# Altium footprint library Custom.PcbLib: 446 footprints (part 23 of 28)
Each footprint in its own frame and in the unit in brackets; x right, y up, seen from the top. Pads: shape width x height; smd on the part's side, far side on the other; paste and mask are expansions set on the pad; w line width, h text height; cw(c..) or ccw(c..) is an arc to the next point about the centre after c.
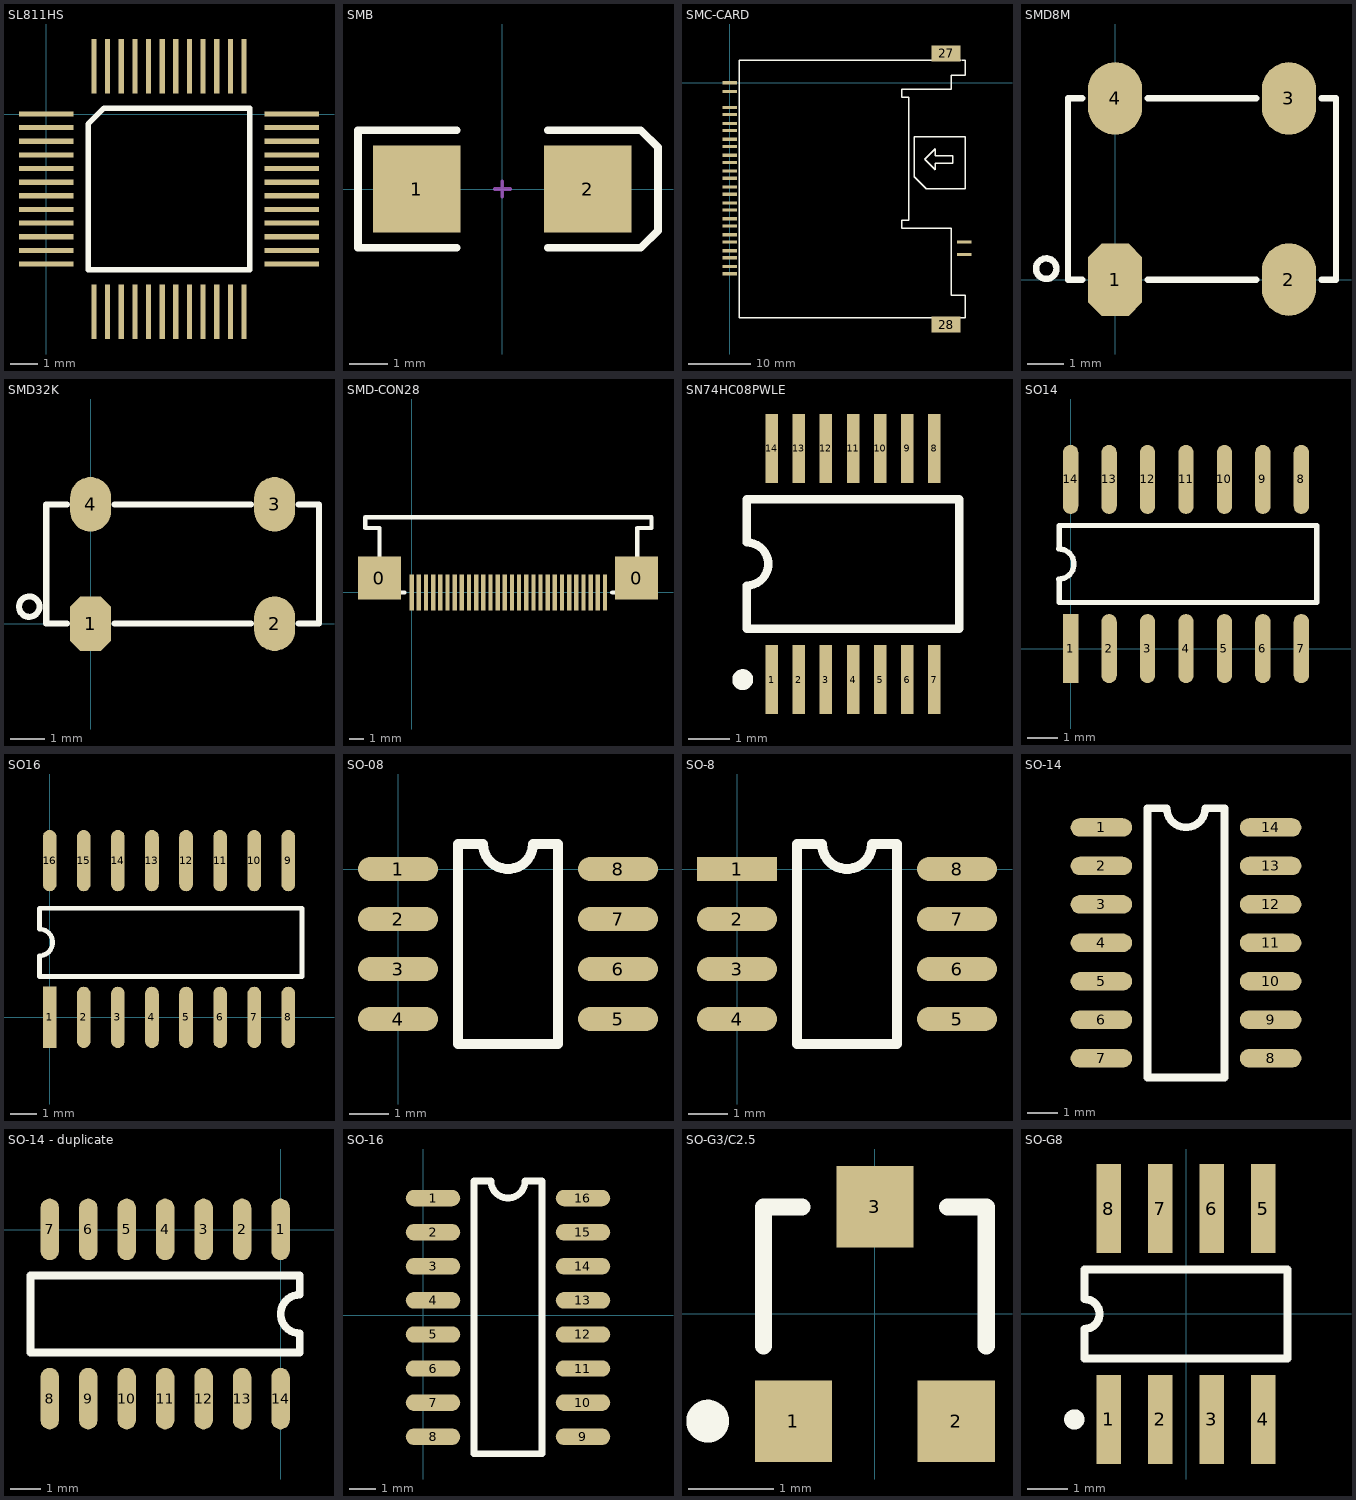
[diagram p22: the footprints below, top view; thin cyan lines are the x and y axes]

## SL811HS [mm]
pads (48):
  rect 2x0.19 smd: 1(0,0) 2(0,-0.5) 3(0,-1) 4(0,-1.5) 5(0,-2) 6(0,-2.5) 7(0,-3) 8(0,-3.5) 9(0,-4) 10(0,-4.5) 11(0,-5) 12(0,-5.5) 25(9,-5.5) 26(9,-5) 27(9,-4.5) 28(9,-4) 29(9,-3.5) 30(9,-3) 31(9,-2.5) 32(9,-2) 33(9,-1.5) 34(9,-1) 35(9,-0.5) 36(9,0)
  rect 0.19x2 smd: 13(1.75,-7.25) 14(2.25,-7.25) 15(2.75,-7.25) 16(3.25,-7.25) 17(3.75,-7.25) 18(4.25,-7.25) 19(4.75,-7.25) 20(5.25,-7.25) 21(5.75,-7.25) 22(6.25,-7.25) 23(6.75,-7.25) 24(7.25,-7.25) 37(7.25,1.75) 38(6.75,1.75) 39(6.25,1.75) 40(5.75,1.75) 41(5.25,1.75) 42(4.75,1.75) 43(4.25,1.75) 44(3.75,1.75) 45(3.25,1.75) 46(2.75,1.75) 47(2.25,1.75) 48(1.75,1.75)
Top Overlay:
  lines w0.2: 1.535,-5.715 1.535,-0.37 2.12,0.215 7.465,0.215 7.465,-5.715 1.535,-5.715

## SMB [mm] "DO-214-AA/SMB; 2 C-Bend Leads; Body 5.3 x 3.6 mm, inc. leads (LxW)"
height 2.54
pads (2):
  rect 2.3x2.3 smd: 1(-2.25,0) 2(2.25,0)
Top Overlay:
  lines w0.2: -1.2,-1.55 -3.8,-1.55 -3.8,1.55 -1.2,1.55 ; 1.2,-1.55 3.65,-1.55 4.1,-1.1 4.1,1.1 3.65,1.55 1.2,1.55
Mechanical 1:
  lines w0.1: -0.2,0 0.2,0 ; 0,-0.2 0,0.2

## SMC-CARD [mil]
pads (28):
  rect 90x20 smd: 1(0,-1200) 2(0,-1100) 3(0,-1000) 4(0,-900) 5(0,-800) 6(0,-700) 7(0,-600) 8(0,-500) 9(0,-400) 10(0,-300) 11(0,-200) 12(0,-155) 13(0,-255) 14(0,-355) 15(0,-455) 16(0,-555) 17(0,-655) 18(0,-755) 19(0,-855) 20(0,-955) 21(0,-1055) 22(0,-1155) 23(0,-55) 24(0,0) 25(1475,-1080) 26(1475,-1000)
  rect 180x100 smd: 27(1360,185) 28(1360,-1520)
Top Overlay:
  lines w8: 1452,140 60,140 60,-1475 1480,-1475 1480,-1335 1394,-1335 1394,-915 1080,-915 1080,-864 1125,-864 1125,-92 1080,-92 1080,-40 1394,-40 1394,48 1480,48 1480,140 1457,140 ; 1160,-589 1160,-339 1479,-339 1479,-665 1236,-665 1160,-589 ; 1227.5,-480.5 1293,-415 1293,-458 1403,-458 1403,-505 1293,-505 1293,-546 1227.5,-480.5

## SMD8M [mm]
pads (4):
  oct 1.5x2 smd: 1(0,0)
  oval 1.5x2 smd: 2(4.8,0) 3(4.8,5) 4(0,5)
Top Overlay:
  circle w0.178: c-1.9,0.3 r0.283
  lines w0.178: -0.9,0 -1.3,0 -1.3,5 -0.9,5 ; 0.9,0 3.9,0 ; 0.9,5 3.9,5 ; 5.7,0 6.1,0 6.1,5 5.7,5

## SMD32K [mm]
pads (4):
  oct 1.2x1.6 smd: 1(-0.01,0)
  oval 1.2x1.6 smd: 2(5.39,0) 3(5.39,3.5) 4(-0.01,3.5)
Top Overlay:
  circle w0.178: c-1.81,0.5 r0.3
  lines w0.178: -0.71,0 -1.31,0 -1.31,3.5 -0.71,3.5 ; 0.69,0 4.69,0 ; 0.69,3.5 4.69,3.5 ; 6.09,0 6.69,0 6.69,3.5 6.09,3.5

## SMD-CON28 [mm]
pads (30):
  rect 3x3 smd: 0(-2.25,1) 0(15.7,1)
  rect 0.3x2.54 smd: 1(0,0) 2(0.5,0) 3(1,0) 4(1.5,0) 5(2,0) 6(2.5,0) 7(3,0) 8(3.5,0) 9(4,0) 10(4.5,0) 11(5,0) 12(5.5,0) 13(6,0) 14(6.5,0) 15(7,0) 16(7.5,0) 17(8,0) 18(8.5,0) 19(9,0) 20(9.5,0) 21(10,0) 22(10.5,0) 23(11,0) 24(11.5,0) 25(12,0) 26(12.5,0) 27(13,0) 28(13.5,0)
Top Overlay:
  lines w0.305: -0.5,0 -2.25,0 -2.25,4.5 -3.25,4.5 -3.25,5.25 -2.25,5.25 5.75,5.25 15.75,5.25 16.75,5.25 16.75,4.5 15.75,4.5 15.75,0 14,0 ; 2.25,5.25 9.5,5.25

## SN74HC08PWLE [mm]
pads (14):
  rect 0.3x1.65 smd: 1(-745.799,-810.4) 2(-745.149,-810.4) 3(-744.499,-810.4) 4(-743.849,-810.4) 5(-743.199,-810.4) 6(-742.549,-810.4) 7(-741.899,-810.4) 8(-741.899,-804.85) 9(-742.549,-804.85) 10(-743.199,-804.85) 11(-743.849,-804.85) 12(-744.499,-804.85) 13(-745.149,-804.85) 14(-745.799,-804.85)
Top Overlay:
  circle w0.25: c-746.499,-810.4 r0.125
  lines w0.2: -746.399,-809.175 -741.299,-809.175 -741.299,-806.075 -746.399,-806.075 -746.399,-807.108 cw(c-746.399,-807.625) -746.399,-808.142 -746.399,-809.175

## SO14 [mil]
pads (14):
  rect 20x90 smd: 1(0,0)
  oval 20x90 smd: 2(50,0) 3(100,0) 4(150,0) 5(200,0) 6(250,0) 7(300,0) 8(300,220) 9(250,220) 10(200,220) 11(150,220) 12(100,220) 13(50,220) 14(0,220)
Top Overlay:
  lines w7: -15.35,90.31 ccw(c-15.35,110) -15.35,129.69 ; -15,90 -15,60 170,60 320,60 320,160 170,160 -15,160 -15,130

## SO16 [mil]
pads (16):
  rect 20x90 smd: 1(0,0)
  oval 20x90 smd: 2(50,0) 3(100,0) 4(150,0) 5(200,0) 6(250,0) 7(300,0) 8(350,0) 9(350,230) 10(300,230) 11(250,230) 12(200,230) 13(150,230) 14(100,230) 15(50,230) 16(0,230)
Top Overlay:
  lines w7: -15.35,90.31 ccw(c-15.35,110) -15.35,129.69 ; -15,90 -15,60 170,60 370,60 370,160 170,160 -15,160 -15,130

## SO-08 [mil]
pads (8):
  oval 80x24 smd: 1(0,0) 2(0,-50) 3(0,-100) 4(0,-150) 5(220,-150) 6(220,-100) 7(220,-50) 8(220,0)
Top Overlay:
  lines w10: 60,-175 160,-175 160,25 135,25 cw(c110,25) 85,25 60,25 60,-175

## SO-8 [mil]
pads (8):
  rect 80x24 smd: 1(0,0)
  oval 80x24 smd: 2(0,-50) 3(0,-100) 4(0,-150) 5(220,-150) 6(220,-100) 7(220,-50) 8(220,0)
Top Overlay:
  lines w10: 60,-175 160,-175 160,25 135,25 cw(c110,25) 85,25 60,25 60,-175

## SO-14 [mil]
pads (14):
  oval 80x24 smd: 1(142,-76) 2(142,-126) 3(142,-176) 4(142,-226) 5(142,-276) 6(142,-326) 7(142,-376) 8(362,-376) 9(362,-326) 10(362,-276) 11(362,-226) 12(362,-176) 13(362,-126) 14(362,-76)
Top Overlay:
  lines w10: 202,-401 202,-51 227,-51 ccw(c252,-51) 277,-51 302,-51 302,-401 202,-401

## SO-14 - duplicate [mil]
pads (14):
  oval 24x80 smd: 1(0.02,0.24) 2(-49.98,0.24) 3(-99.98,0.24) 4(-149.98,0.24) 5(-199.98,0.24) 6(-249.98,0.24) 7(-299.98,0.24) 8(-299.98,-219.76) 9(-249.98,-219.76) 10(-199.98,-219.76) 11(-149.98,-219.76) 12(-99.98,-219.76) 13(-49.98,-219.76) 14(0.02,-219.76)
Top Overlay:
  lines w10: -324.98,-159.76 25.02,-159.76 25.02,-134.76 cw(c25.02,-109.76) 25.02,-84.76 25.02,-59.76 -324.98,-59.76 -324.98,-159.76

## SO-16 [mil]
pads (16):
  oval 80x24 smd: 1(14,172) 2(14,122) 3(14,72) 4(14,22) 5(14,-28) 6(14,-78) 7(14,-128) 8(14,-178) 9(234,-178) 10(234,-128) 11(234,-78) 12(234,-28) 13(234,22) 14(234,72) 15(234,122) 16(234,172)
Top Overlay:
  lines w10: 74,-203 174,-203 174,197 149,197 cw(c124,197) 99,197 74,197 74,-203

## SO-G3/C2.5 [mm] "SOT-23; 3 Leads; Body 3.0 x 2.6 mm, inc. leads (LxW max)"
pads (3):
  rect 0.9x0.95 smd: 1(-0.95,-1.25) 2(0.95,-1.25) 3(0,1.25)
Top Overlay:
  circle w0.25: c-1.95,-1.25 r0.125
  lines w0.2: -1.3,-0.375 -1.3,1.25 -0.85,1.25 ; 0.85,1.25 1.3,1.25 1.3,-0.375

## SO-G8 [mm] "Small Outline; 8 Leads; Body Width 3.9 mm; Pitch 1.27 mm"
height 1.75
pads (8):
  rect 0.6x2.2 smd: 1(-1.905,-2.6) 2(-0.635,-2.6) 3(0.635,-2.6) 4(1.905,-2.6) 5(1.905,2.6) 6(0.635,2.6) 7(-0.635,2.6) 8(-1.905,2.6)
Top Overlay:
  circle w0.25: c-2.755,-2.6 r0.125
  lines w0.2: -2.5,-0.367 -2.5,-1.1 2.5,-1.1 2.5,1.1 -2.5,1.1 -2.5,0.367 ; -2.5,-0.367 ccw(c-2.5,0) -2.5,0.367